# Altium footprint library SFPextension.PcbLib: 6 footprints
Each footprint in its own frame and in the unit in brackets; x right, y up, seen from the top. Pads: shape width x height; smd on the part's side, far side on the other; paste and mask are expansions set on the pad; w line width, h text height; cw(c..) or ccw(c..) is an arc to the next point about the centre after c.
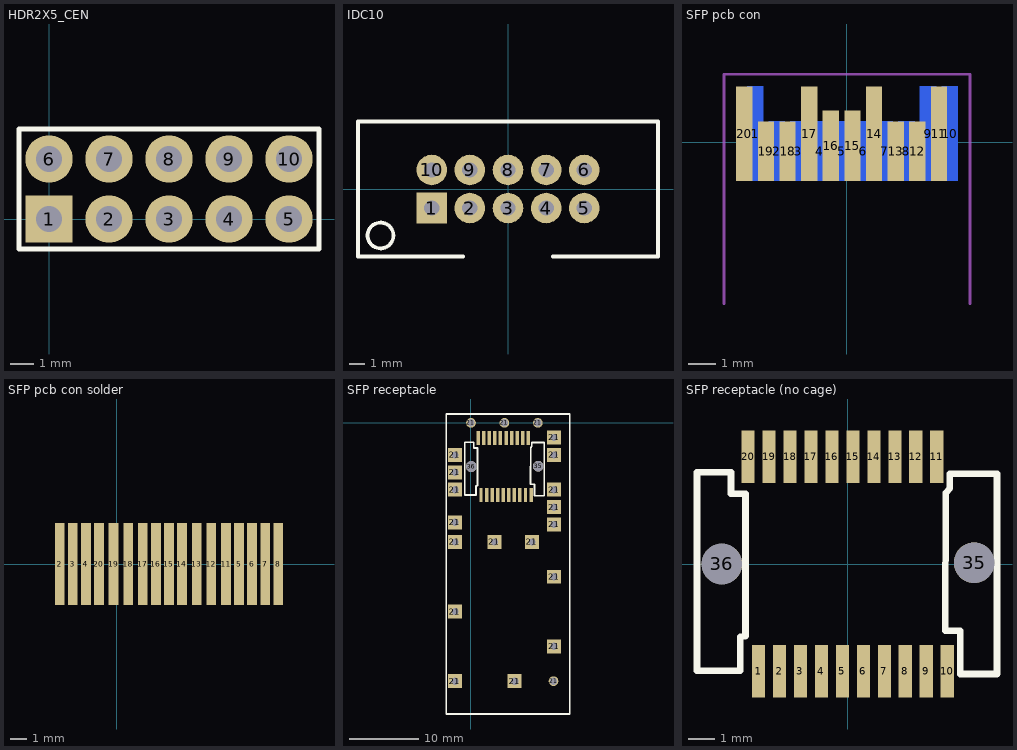
[diagram p0: the footprints below, top view; thin cyan lines are the x and y axes]

## HDR2X5_CEN [mm] "Connector; Header; 5x2 Position"
pads (10):
  rect 2x2 hole 1.1: 1(0,0)
  round 2 hole 1.1: 2(2.54,0) 3(5.08,0) 4(7.62,0) 5(10.16,0) 6(0,2.54) 7(2.54,2.54) 8(5.08,2.54) 9(7.62,2.54) 10(10.16,2.54)
Top Overlay:
  lines w0.2: -1.27,-1.27 11.43,-1.27 11.43,3.81 -1.27,3.81 -1.27,-1.27

## IDC10 [mm] "IDC 10 pin connector"
height 15
pads (10):
  rect 2.04x2.04 hole 1.02: 1(-5.08,-1.27)
  round 2.04 hole 1.02: 2(-2.54,-1.27) 3(0,-1.27) 4(2.54,-1.27) 5(5.08,-1.27) 6(5.08,1.27) 7(2.54,1.27) 8(0,1.27) 9(-2.54,1.27) 10(-5.08,1.27)
Top Overlay:
  circle w0.254: c-8.5,-3.1 r0.86
  lines w0.254: -3,-4.5 -5,-4.5 -10,-4.5 -10,4.5 10,4.5 10,-4.5 5,-4.5 3,-4.5

## SFP pcb con [mm]
pads (20):
  rect 0.6x3.5 smd far side: 1(-3.4,0.325) 9(3,0.325) 10(3.8,0.325)
  rect 0.6x2.2 smd far side: 2(-2.6,-0.325) 3(-1.8,-0.325) 4(-1,-0.325) 5(-0.2,-0.325) 6(0.6,-0.325) 7(1.4,-0.325) 8(2.2,-0.325)
  rect 0.6x3.5 smd: 11(3.4,0.325) 14(1,0.325) 17(-1.4,0.325) 20(-3.8,0.325)
  rect 0.6x2.2 smd: 12(2.6,-0.325) 13(1.8,-0.325) 18(-2.2,-0.325) 19(-3,-0.325)
  rect 0.6x2.6 smd: 15(0.2,-0.125) 16(-0.6,-0.125)
Mechanical 3:
  lines w0.1: -4.55,-5.975 -4.55,2.525 4.55,2.525 4.55,-5.975

## SFP pcb con solder [mm]
pads (17):
  rect 0.6x5 smd: 2(-3.49,0) 3(-2.69,0) 4(-1.89,0) 5(7.5,0) 6(8.3,0) 7(9.1,0) 8(9.9,0) 11(6.7,0) 12(5.8,0) 13(4.9,0) 14(4,0) 15(3.2,0) 16(2.4,0) 17(1.6,0) 18(0.71,0) 19(-0.19,0) 20(-1.09,0)

## SFP receptacle [mm]
pads (43):
  rect 0.5x2 smd: 1(1.439,-10.387) 2(2.239,-10.387) 3(3.039,-10.387) 4(3.839,-10.387) 5(4.639,-10.387) 6(5.439,-10.387) 7(6.239,-10.387) 8(7.039,-10.387) 9(7.839,-10.387) 10(8.639,-10.387) 11(8.239,-2.187) 12(7.439,-2.187) 13(6.639,-2.187) 14(5.839,-2.187) 15(5.039,-2.187) 16(4.239,-2.187) 17(3.439,-2.187) 18(2.639,-2.187) 19(1.839,-2.187) 20(1.039,-2.187)
  rect 2x2 hole 1.05: 21(-2.311,-37.135) 21(-2.311,-27.127) 21(-2.311,-17.12) 21(-2.311,-14.3) 21(-2.311,-9.601) 21(-2.311,-7.112) 21(-2.311,-4.623) 21(3.378,-17.12) 21(6.274,-37.135) 21(8.763,-17.12) 21(11.938,-32.131) 21(11.938,-22.123) 21(11.938,-14.616) 21(11.938,-12.116) 21(11.938,-9.601) 21(11.938,-4.623) 21(11.938,-2.108)
  round 1.4 hole 1.067: 21(0,0) 21(4.8,0) 21(9.601,0) 21(11.864,-37.137)
  round 1.55 hole 1.55: 35(9.664,-6.237) 36(0.039,-6.287)
Top Overlay:
  lines w0.254: -3.556,-41.859 -3.556,-4.623 -3.556,1.27 14.199,1.27 14.199,-41.859 -3.556,-41.859 ; -0.911,-10.362 -0.911,-2.787 0.389,-2.787 0.389,-3.612 0.939,-3.612 0.939,-9.037 0.739,-9.062 0.739,-10.362 -0.911,-10.362 ; 8.564,-8.837 8.589,-3.562 8.739,-3.387 8.739,-2.837 10.539,-2.837 10.539,-10.487 9.139,-10.487 9.139,-8.837 8.564,-8.837

## SFP receptacle (no cage) [mm]
pads (22):
  rect 0.5x2 smd: 1(-3.412,-4.1) 2(-2.612,-4.1) 3(-1.812,-4.1) 4(-1.012,-4.1) 5(-0.212,-4.1) 6(0.588,-4.1) 7(1.388,-4.1) 8(2.188,-4.1) 9(2.988,-4.1) 10(3.788,-4.1) 11(3.388,4.1) 12(2.588,4.1) 13(1.788,4.1) 14(0.988,4.1) 15(0.188,4.1) 16(-0.612,4.1) 17(-1.412,4.1) 18(-2.212,4.1) 19(-3.012,4.1) 20(-3.812,4.1)
  round 1.55 hole 1.55: 35(4.813,0.05) 36(-4.812,0)
Top Overlay:
  lines w0.254: -5.762,-4.075 -5.762,3.5 -4.462,3.5 -4.462,2.675 -3.912,2.675 -3.912,-2.75 -4.112,-2.775 -4.112,-4.075 -5.762,-4.075 ; 3.713,-2.55 3.738,2.725 3.888,2.9 3.888,3.45 5.688,3.45 5.688,-4.2 4.288,-4.2 4.288,-2.55 3.713,-2.55